# Altium schematic symbol library mosfet_n_diode_schottky.SchLib: 1 symbol
Pins are listed as number, name and electrical type; pins without a type are passive.

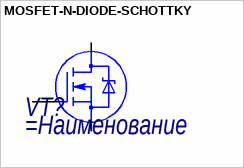
[diagram p0: symbol MOSFET-N-DIODE-SCHOTTKY]

## MOSFET-N-DIODE-SCHOTTKY
designator VT?
=Описание
pins: D, G, S